# Altium footprint library Semiconductors.PcbLib: 17 footprints (part 2 of 2)
Each footprint in its own frame and in the unit in brackets; x right, y up, seen from the top. Pads: shape width x height; smd on the part's side, far side on the other; paste and mask are expansions set on the pad; w line width, h text height; cw(c..) or ccw(c..) is an arc to the next point about the centre after c.
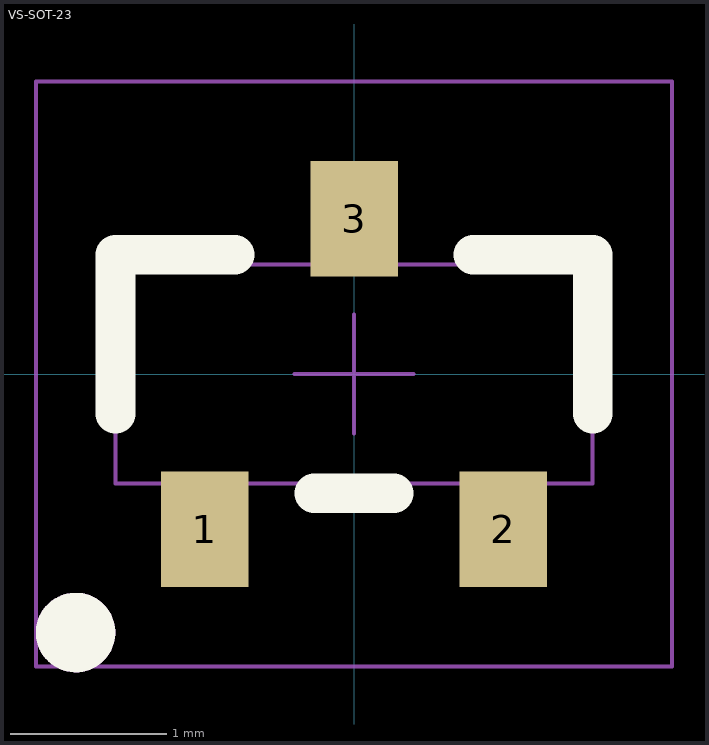
[diagram p1: the footprint, top view; thin cyan lines are the x and y axes]

## VS-SOT-23 [mil]
pads (3):
  rect 22x29 smd: 1(-37.5,-39) 2(37.5,-39) 3(0,39)
Top Overlay:
  circle w10: c-70,-65 r5
  lines w10: -60,-10 -60,30 -30,30 ; -10,-30 10,-30 ; 30,30 60,30 60,-10
Top Courtyard (Mech4):
  lines w1: -80,-73.5 -80,73.5 80,73.5 80,-73.5 -80,-73.5
Top Assembly:
  circle w10: c-70,-65 r5
  lines w1: -15,0 15,0 ; 0,-15 0,15 ; -60,-27.5 60,-27.5 60,27.5 -60,27.5 -60,-27.5
3D body "SI2301CDS-T1-GE3.STEP": height 44.09, standoff 0, extent -57.48,-46.65 57.48,46.65